# Altium footprint library PCB1.PcbLib: 17 footprints (part 2 of 2)
Each footprint in its own frame and in the unit in brackets; x right, y up, seen from the top. Pads: shape width x height; smd on the part's side, far side on the other; paste and mask are expansions set on the pad; w line width, h text height; cw(c..) or ccw(c..) is an arc to the next point about the centre after c.
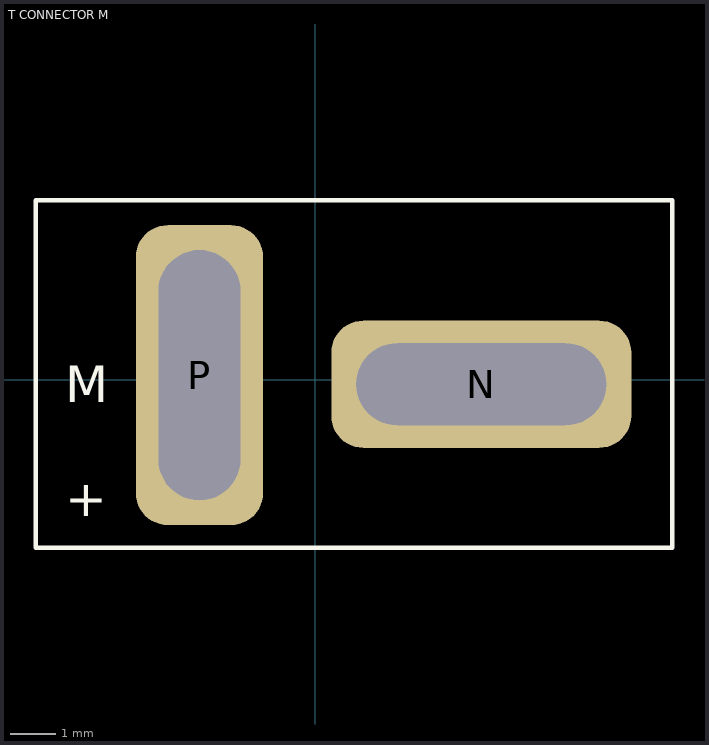
[diagram p1: the footprint, top view; thin cyan lines are the x and y axes]

## T CONNECTOR M [mm] "T-shape connector ; Male side"
pads (2):
  rrect50% 6.6x2.8 hole 1.8 slot 5.5 at 0 deg: N(3.65,-0.1)
  rrect50% 2.8x6.6 hole 1.8 slot 5.5 at 90 deg: P(-2.55,0.1)
Top Overlay:
  lines w0.1: 0.35,3.95 -1.15,3.95 ; -1.15,3.95 -1.15,3.95 ; -6.15,-3.7 -6.15,3.95 7.85,3.95 7.85,-3.7 -6.15,-3.7
  text "M" at -5.5,-0.5 h0.8
  text "+" at -5.5,-3 h0.8